# EAGLE library part TC2030 (library Connectors)
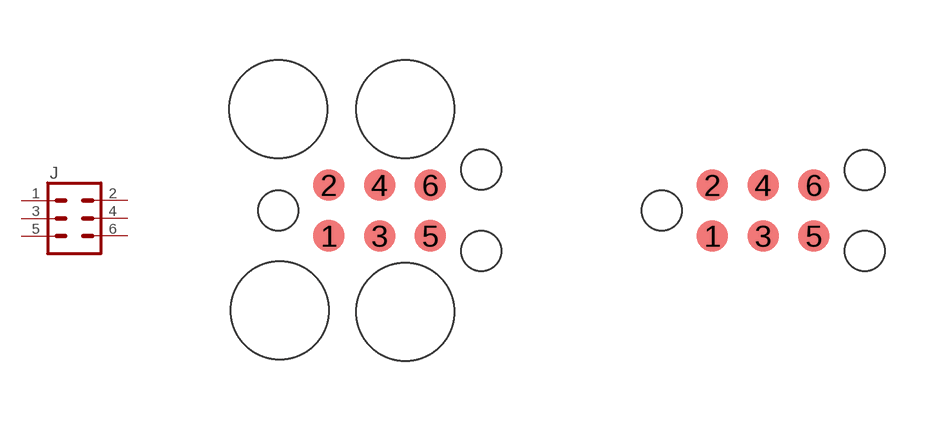
[diagram p10: symbol with the pads of TC2030; footprints TC2030, TC2030-NL]

Designator prefix J

## TC2030  [TC2030]
1  1
2  2
3  3
4  4
5  5
6  6

## TC2030NL  [TC2030-NL]
Pads as for TC2030

## Footprint TC2030 (pad centres in mm)
smd 0.787 x 0.787: 1 -1.27,-0.635; 2 -1.27,0.635; 3 0,-0.636; 4 0,0.635; 5 1.27,-0.635; 6 1.27,0.635
hole 1 at 2.54,1.016
hole 1 at 2.54,-1.016
hole 2.45 at -2.54,2.54
hole 2.45 at 0.635,2.54
hole 2.45 at -2.5,-2.5
hole 2.45 at 0.635,-2.54
hole 1 at -2.54,0

## Footprint TC2030-NL (pad centres in mm)
smd 0.787 x 0.787: 1 -1.27,-0.635; 2 -1.27,0.635; 3 0,-0.636; 4 0,0.635; 5 1.27,-0.635; 6 1.27,0.635
hole 1 at 2.54,1.016
hole 1 at 2.54,-1.016
hole 1 at -2.54,0